# EAGLE library part REG_TPS71 (library akita)
TI's TPS71
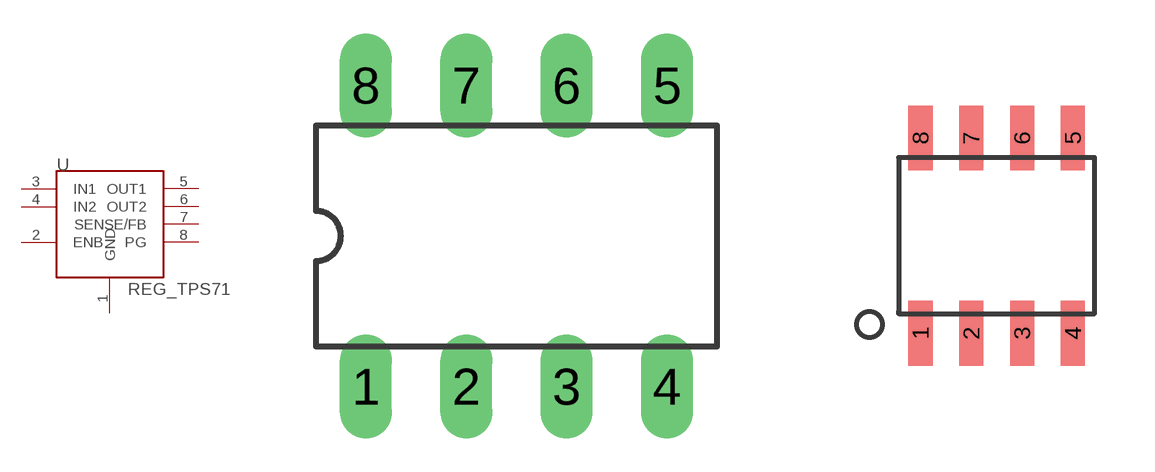
[diagram p158: symbol with the pads of DIL08; footprints DIL08, SOP8]

Designator prefix U

## REG_TPS71P  [DIL08]
1  GND
2  ENB
3  IN1
4  IN2
5  OUT1
6  OUT2
7  SENSE/FB
8  PG

## REG_TPS71D  [SOP8]
Pads as for DIL08

## Footprint DIL08 (pad centres in mm)
Dual In Line
drill 0.813 long: 1 -3.81,-3.81; 2 -1.27,-3.81; 3 1.27,-3.81; 4 3.81,-3.81; 5 3.81,3.81; 6 1.27,3.81; 7 -1.27,3.81; 8 -3.81,3.81

## Footprint SOP8 (pad centres in mm)
smd 0.6 x 1.62: 1 -1.905,-2.44; 2 -0.635,-2.44; 3 0.635,-2.44; 4 1.905,-2.44; 5 1.905,2.44; 6 0.635,2.44; 7 -0.635,2.44; 8 -1.905,2.44